# EAGLE library part 74*4052 (library IC)
Dual 4-channel analog multiplexer/demultiplexer http://www.nxp.com/documents/data_sheet/74HC_HCT4052.pdf
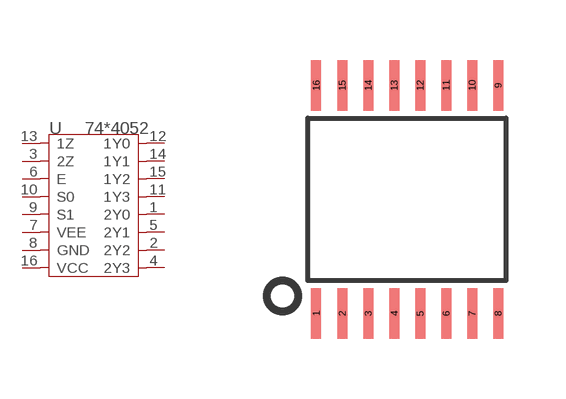
[diagram p46: symbol with the pads of TSSOP16-6.4; footprint TSSOP16-6.4]

Designator prefix U

## 74HC4052PW, 74HCT4052PW  [TSSOP16-6.4]
1  2Y0
2  2Y2
3  2Z
4  2Y3
5  2Y1
6  E  in
7  VEE  sup
8  GND  sup
9  S1  in
10  S0  in
11  1Y3
12  1Y0
13  1Z
14  1Y1
15  1Y2
16  VCC  sup

## Footprint TSSOP16-6.4 (pad centres in mm)
smd 0.25 x 1.27: 1 -3.474,-2.215; 2 -2.824,-2.215; 3 -2.174,-2.215; 4 -1.524,-2.215; 5 -0.874,-2.215; 6 -0.224,-2.215; 7 0.426,-2.215; 8 1.076,-2.215; 9 1.076,3.485; 10 0.426,3.485; 11 -0.224,3.485; 12 -0.874,3.485; 13 -1.524,3.485; 14 -2.174,3.485; 15 -2.824,3.485; 16 -3.474,3.485